# Altium schematic symbol library SCH - LOGIC - SN74HCS32PWR.SCHLIB: 1 symbol
Pins are listed as number, name and electrical type; pins without a type are passive.

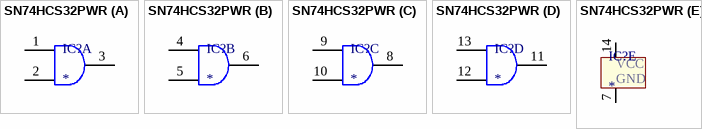
[diagram p0: symbol SN74HCS32PWR]

## SN74HCS32PWR
designator IC?
part A pins: 1, 2, 3
part B pins: 4, 5, 6
part C pins: 8, 9, 10
part D pins: 11, 12, 13
part E pins: 7, 14
part E text: VCC; GND